# EAGLE library part SDVR_SMALL (library mylibrary)
SDVR_SMALL Input voltage:4.5V-28V Output voltage:1.3V-17V Output current:Rated current is 2A,maximum 3A(Additional heatsink is required)
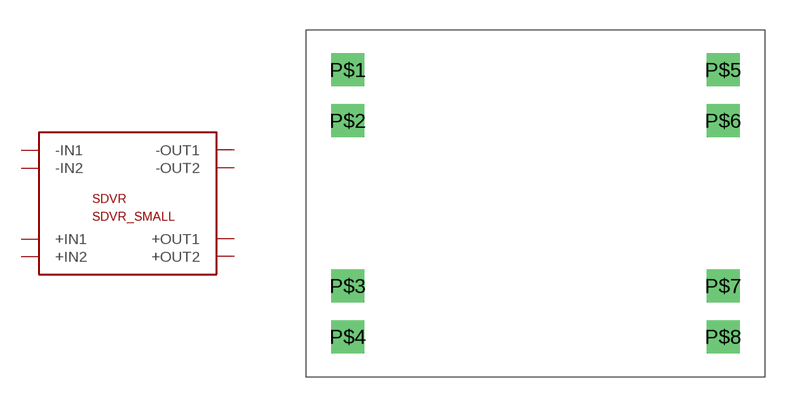
[diagram p0: symbol with the pads of SDVR_SMALL; footprint SDVR_SMALL]

Designator prefix SDVR

## SDVR_SMALL  [SDVR_SMALL]
P$1  -IN1
P$2  -IN2
P$3  +IN1
P$4  +IN2
P$5  -OUT1
P$6  -OUT2
P$7  +OUT1
P$8  +OUT2

## Footprint SDVR_SMALL (pad centres in mm)
drill 0.8 pad 1.651 square: P$1 -9.366,6.668; P$2 -9.366,4.128; P$3 -9.366,-4.128; P$4 -9.366,-6.668; P$5 9.366,6.668; P$6 9.366,4.128; P$7 9.366,-4.128; P$8 9.366,-6.668